# EAGLE library part AT45DB321D-S (library memory-atmel)
FLASH MEMORY 32-megabit, 2.7-volt, DataFlash®
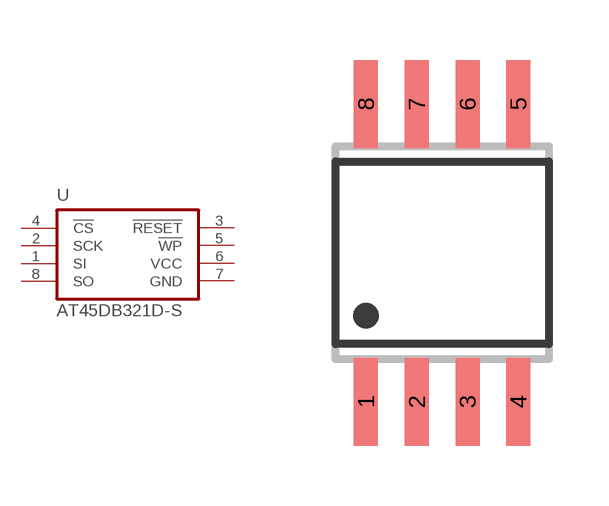
[diagram p12: symbol with the pads of SO08-8S2; footprint SO08-8S2]

Designator prefix U

## AT45DB321D-S  [SO08-8S2]
1  SI  in
2  SCK  in
3  !RESET!  in
4  !CS!  in
5  !WP!  in
6  VCC  pwr
7  GND  pwr
8  SO  out

## Footprint SO08-8S2 (pad centres in mm)
SMALL OUTLINE INTEGRATED CIRCUIT 8S2 Package (EIAJ), 5.4 mm body
smd 0.6 x 2.2: 1 -1.905,-3.725; 2 -0.635,-3.725; 3 0.635,-3.725; 4 1.905,-3.725; 5 1.905,3.725; 6 0.635,3.725; 7 -0.635,3.725; 8 -1.905,3.725